# EAGLE library part S3C72N* (library micro-samsung)
S3C72N2/C72N4/P72N4 single-chip CMOS microcontroller has been designed for high performance using Samsung's newest 4-bit CPU core, SAM47 (Samsung Arrangeable Microcontrollers). Source: http://www.samsung.com/Products/Semiconductor/SystemLSI/Microcontrollers/4_bit/S3C7_KS57Series/S3C72N4/um_s3c72n2_cp72n4_v1.pdf
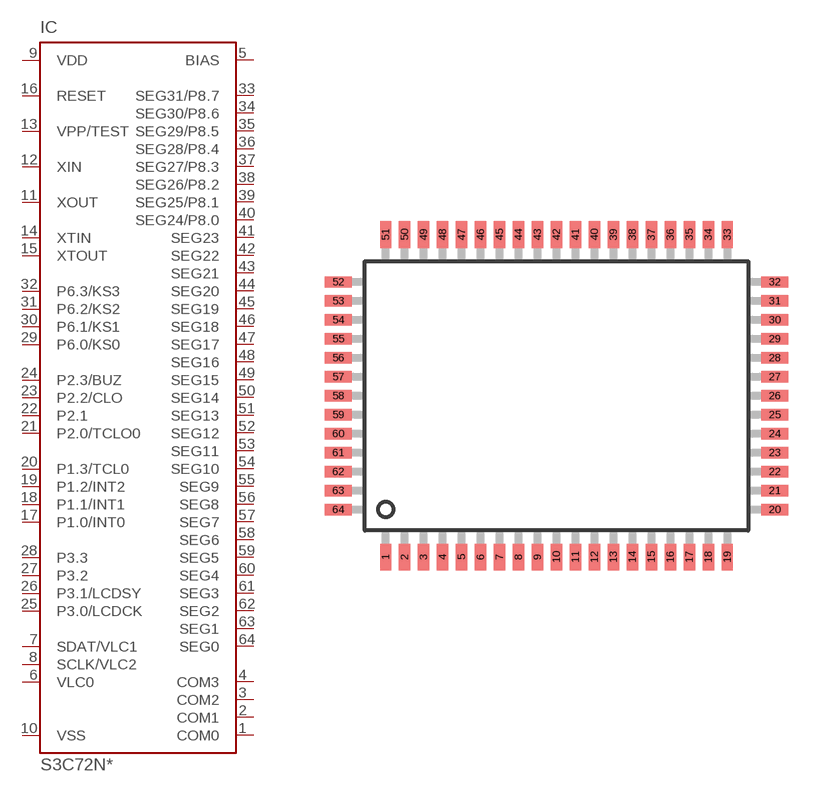
[diagram p0: symbol with the pads of 64-QFP-1420F; footprint 64-QFP-1420F]

Designator prefix IC

## S3C72N2, S3C72N4  [64-QFP-1420F]
1  COM0  out
2  COM1  out
3  COM2  out
4  COM3  out
5  BIAS  pas
6  VLC0  pas
7  SDAT/VLC1  pas
8  SCLK/VLC2  pas
9  VDD  pwr
10  VSS  pwr
11  XOUT  out
12  XIN  in
13  VPP/TEST  in
14  XTIN  pas
15  XTOUT  out
16  RESET  in
17  P1.0/INT0  in
18  P1.1/INT1  in
19  P1.2/INT2  in
20  P1.3/TCL0  in
21  P2.0/TCLO0
22  P2.1
23  P2.2/CLO
24  P2.3/BUZ
25  P3.0/LCDCK
26  P3.1/LCDSY
27  P3.2
28  P3.3
29  P6.0/KS0
30  P6.1/KS1
31  P6.2/KS2
32  P6.3/KS3
33  SEG31/P8.7  out
34  SEG30/P8.6  out
35  SEG29/P8.5  out
36  SEG28/P8.4  out
37  SEG27/P8.3  out
38  SEG26/P8.2  out
39  SEG25/P8.1  out
40  SEG24/P8.0  out
41  SEG23  out
42  SEG22  out
43  SEG21  out
44  SEG20  out
45  SEG19  out
46  SEG18  out
47  SEG17  out
48  SEG16  out
49  SEG15  out
50  SEG14  out
51  SEG13  out
52  SEG12  out
53  SEG11  out
54  SEG10  out
55  SEG9  out
56  SEG8  out
57  SEG7  out
58  SEG6  out
59  SEG5  out
60  SEG4  out
61  SEG3  out
62  SEG2  out
63  SEG1  out
64  SEG0  out

## Footprint 64-QFP-1420F (pad centres in mm)
64-QFP-1420F source: http://www.samsung.com/Products/Semiconductor/SystemLSI/Microcontrollers/4_bit/S3C7_KS57Series/S3C72N4/um_s3c72n2_cp72n4_v1.pdf
smd 0.6 x 1.4: 1 -9,-8.5; 2 -8,-8.5; 3 -7,-8.5; 4 -6,-8.5; 5 -5,-8.5; 6 -4,-8.5; 7 -3,-8.5; 8 -2,-8.5; 9 -1,-8.5; 10 0,-8.5; 11 1,-8.5; 12 2,-8.5; 13 3,-8.5; 14 4,-8.5; 15 5,-8.5; 16 6,-8.5; 17 7,-8.5; 18 8,-8.5; 19 9,-8.5; 33 9,8.5; 34 8,8.5; 35 7,8.5; 36 6,8.5; 37 5,8.5; 38 4,8.5; 39 3,8.5; 40 2,8.5; 41 1,8.5; 42 0,8.5; 43 -1,8.5; 44 -2,8.5; 45 -3,8.5; 46 -4,8.5; 47 -5,8.5; 48 -6,8.5; 49 -7,8.5; 50 -8,8.5; 51 -9,8.5
smd 1.4 x 0.6: 20 11.5,-6; 21 11.5,-5; 22 11.5,-4; 23 11.5,-3; 24 11.5,-2; 25 11.5,-1; 26 11.5,0; 27 11.5,1; 28 11.5,2; 29 11.5,3; 30 11.5,4; 31 11.5,5; 32 11.5,6; 52 -11.5,6; 53 -11.5,5; 54 -11.5,4; 55 -11.5,3; 56 -11.5,2; 57 -11.5,1; 58 -11.5,0; 59 -11.5,-1; 60 -11.5,-2; 61 -11.5,-3; 62 -11.5,-4; 63 -11.5,-5; 64 -11.5,-6